# Altium schematic symbol library LBM2016T2R2J.SchLib: 1 symbol
Pins are listed as number, name and electrical type; pins without a type are passive.

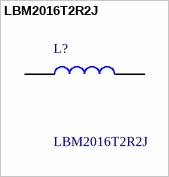
[diagram p0: symbol LBM2016T2R2J]

## LBM2016T2R2J
designator L?
TAIYO YUDEN - LBM2016T2R2J - INDUCTOR, 2.2UH, 340mA, 5%, 75MHZ, SMD; Geometry.Height: 1.8mm; Mouser Part Number: 963-LBM2016T2R2J; Mouser Price/Stock: https://www.mouser.co.uk/ProductDetail/Taiyo-Yuden/LBM2016T2R2J?qs=PzICbMaShUfESDzlIKzzOw%3D%3D; Manufacturer_Name: TAIYO YUDEN; Manufacturer_Part_Number: LBM2016T2R2J; Datasheet Link: *
footprint INDC2016X180N
pins: 1, 2